# Altium schematic symbol library BMS.SchLib: 5 symbols
Pins are listed as number, name and electrical type; pins without a type are passive.

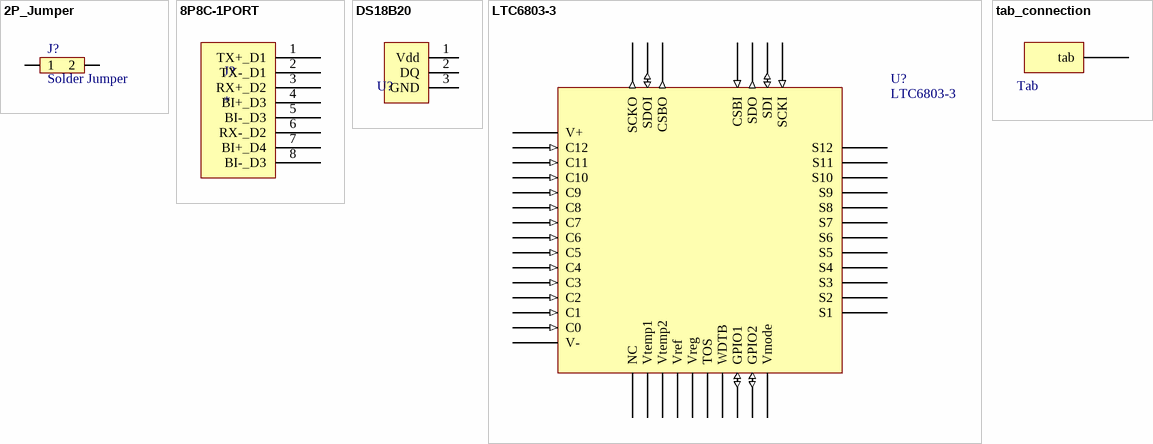
[diagram p0: symbols 2P_Jumper to tab_connection]

## 2P_Jumper
designator J?, comment Solder Jumper
footprint Solder_Jumper
pins: 1, 2

## 8P8C-1PORT
designator J?
footprint 8P8C-1PORT
footprint Ethernet (Ethernet connector)
pins: 1 TX+_D1, 2 TX-_D1, 3 RX+_D2, 4 BI+_D3, 5 BI-_D3, 6 RX-_D2, 7 BI+_D4, 8 BI-_D3

## DS18B20
designator U?  (value not drawn)
DS18B20 1-Wire Temperature sensor
footprint TO-92
pins: 1 Vdd, 2 DQ, 3 GND

## LTC6803-3
designator U?
footprint SOP44
pins: 1 CSBO (out), 2 SDOI (io), 3 SCKO (out), 4 V+ (power), 5 C12 (in), 6 S12, 7 C11 (in), 8 S11, 9 C10 (in), 10 S10, 11 C9 (in), 12 S9, 13 C8 (in), 14 S8, 15 C7 (in), 16 S7, 17 C6 (in), 18 S6, 19 C5 (in), 20 S5, 21 C4 (in), 22 S4, 23 C3 (in), 24 S3, 25 C2 (in), 26 S2, 27 C1 (in), 28 S1, 29 C0 (in), 30 V- (power), 31 NC, 32 Vtemp1, 33 Vtemp2, 34 Vref, 35 Vreg, 36 TOS, 37 WDTB, 38 GPIO1 (io), 39 GPIO2 (io), 40 Vmode, 41 SCKI (in), 42 SDI (io), 43 SDO (out), 44 CSBI (in)

## tab_connection
designator J?, comment Tab
footprint tab_connect
pins: 0 tab